# Altium schematic symbol library Module.Transcievers.SchLib: 1 symbol
Pins are listed as number, name and electrical type; pins without a type are passive.

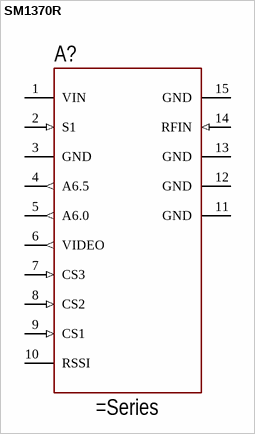
[diagram p0: symbol SM1370R]

## SM1370R
designator A?
SM1370R Reciever
pins: 1 VIN, 2 S1 (in), 3 GND, 4 A6.5 (out), 5 A6.0 (out), 6 VIDEO (out), 7 CS3 (in), 8 CS2 (in), 9 CS1 (in), 10 RSSI, 11 GND, 12 GND, 13 GND, 14 RFIN (in), 15 GND